# Altium footprint library PCB - CONNECTOR - MOLEX - MOLEX 2082410210.PcbLib: 1 footprints
Each footprint in its own frame and in the unit in brackets; x right, y up, seen from the top. Pads: shape width x height; smd on the part's side, far side on the other; paste and mask are expansions set on the pad; w line width, h text height; cw(c..) or ccw(c..) is an arc to the next point about the centre after c.
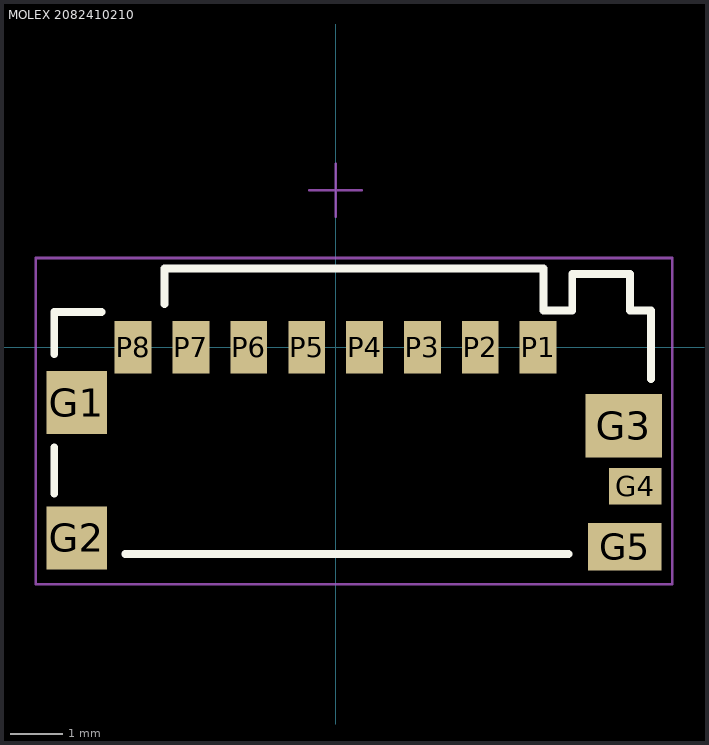
[diagram p0: the footprint, top view; thin cyan lines are the x and y axes]

## MOLEX 2082410210 [mm] "HFM®, Fakra Connector Plug, Male Pin 50 Ohms Through Hole, Right Angle Solder"
height 11.05
pads (13):
  rect 1.15x1.2 smd: G1(-4.92,-1.05) G2(-4.92,-3.62)
  rect 1.45x1.2 smd: G3(5.48,-1.49)
  rect 1x0.7 smd: G4(5.7,-2.64)
  rect 1.4x0.9 smd: G5(5.5,-3.79)
  rect 0.7x1 smd: P1(3.85,0) P2(2.75,0) P3(1.65,0) P4(0.55,0) P5(-0.55,0) P6(-1.65,0) P7(-2.75,0) P8(-3.85,0)
Top Overlay:
  lines w0.15: -5.35,-2.775 -5.35,-1.9 ; -5.35,-0.125 -5.35,0.675 -4.45,0.675 ; -4,-3.925 4.425,-3.925 ; -3.25,0.825 -3.25,1.5 3.95,1.5 3.95,0.7 4.5,0.7 4.5,1.4 5.6,1.4 5.6,0.7 6,0.7 6,-0.6
Top Courtyard:
  lines w0.05: -0.5,2.99 0.5,2.99 ; 0,2.49 0,3.49 ; -5.7,-4.5 6.4,-4.5 6.4,1.7 -5.7,1.7 -5.7,-4.5
3D body "Molex - 0475710001.step": height 2.3, standoff 0, extent -5.35,-3.941 6.05,1.51